# Altium footprint library LPPB061NGCN-RC.PcbLib: 1 footprints
Each footprint in its own frame and in the unit in brackets; x right, y up, seen from the top. Pads: shape width x height; smd on the part's side, far side on the other; paste and mask are expansions set on the pad; w line width, h text height; cw(c..) or ccw(c..) is an arc to the next point about the centre after c.
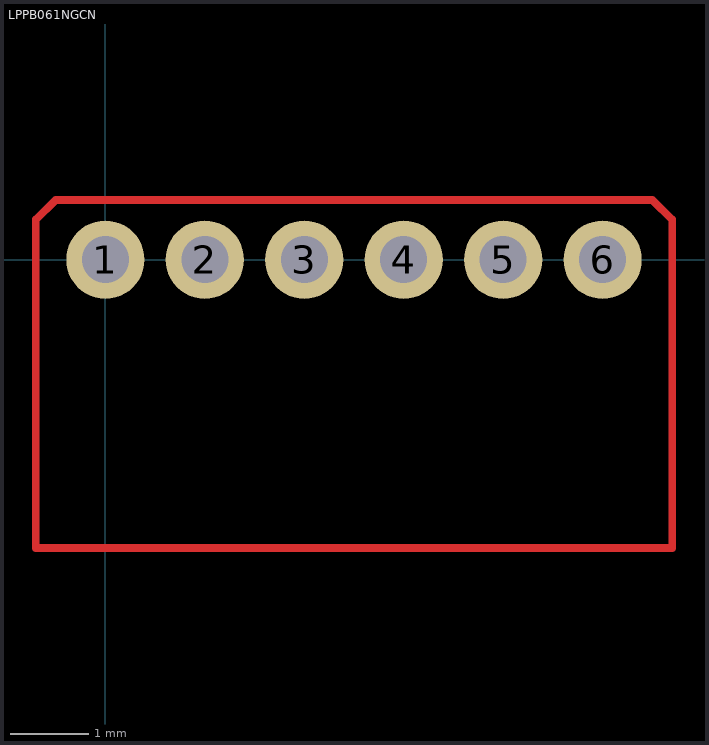
[diagram p0: the footprint, top view; thin cyan lines are the x and y axes]

## LPPB061NGCN [mm] "LPPB061NGCN-RC"
height 2.2
pads (6):
  round 1 hole 0.6: 1(0,0) 2(1.27,0) 3(2.54,0) 4(3.81,0) 5(5.08,0) 6(6.35,0)
Top Layer:
  lines w0.1: -0.889,0.508 -0.635,0.762 6.985,0.762 7.239,0.508 ; -0.889,0.517 -0.889,-3.683 7.239,-3.683 7.239,0.517